# Altium footprint library FootprintsPersonals.PcbLib: 152 footprints (part 4 of 10)
Each footprint in its own frame and in the unit in brackets; x right, y up, seen from the top. Pads: shape width x height; smd on the part's side, far side on the other; paste and mask are expansions set on the pad; w line width, h text height; cw(c..) or ccw(c..) is an arc to the next point about the centre after c.
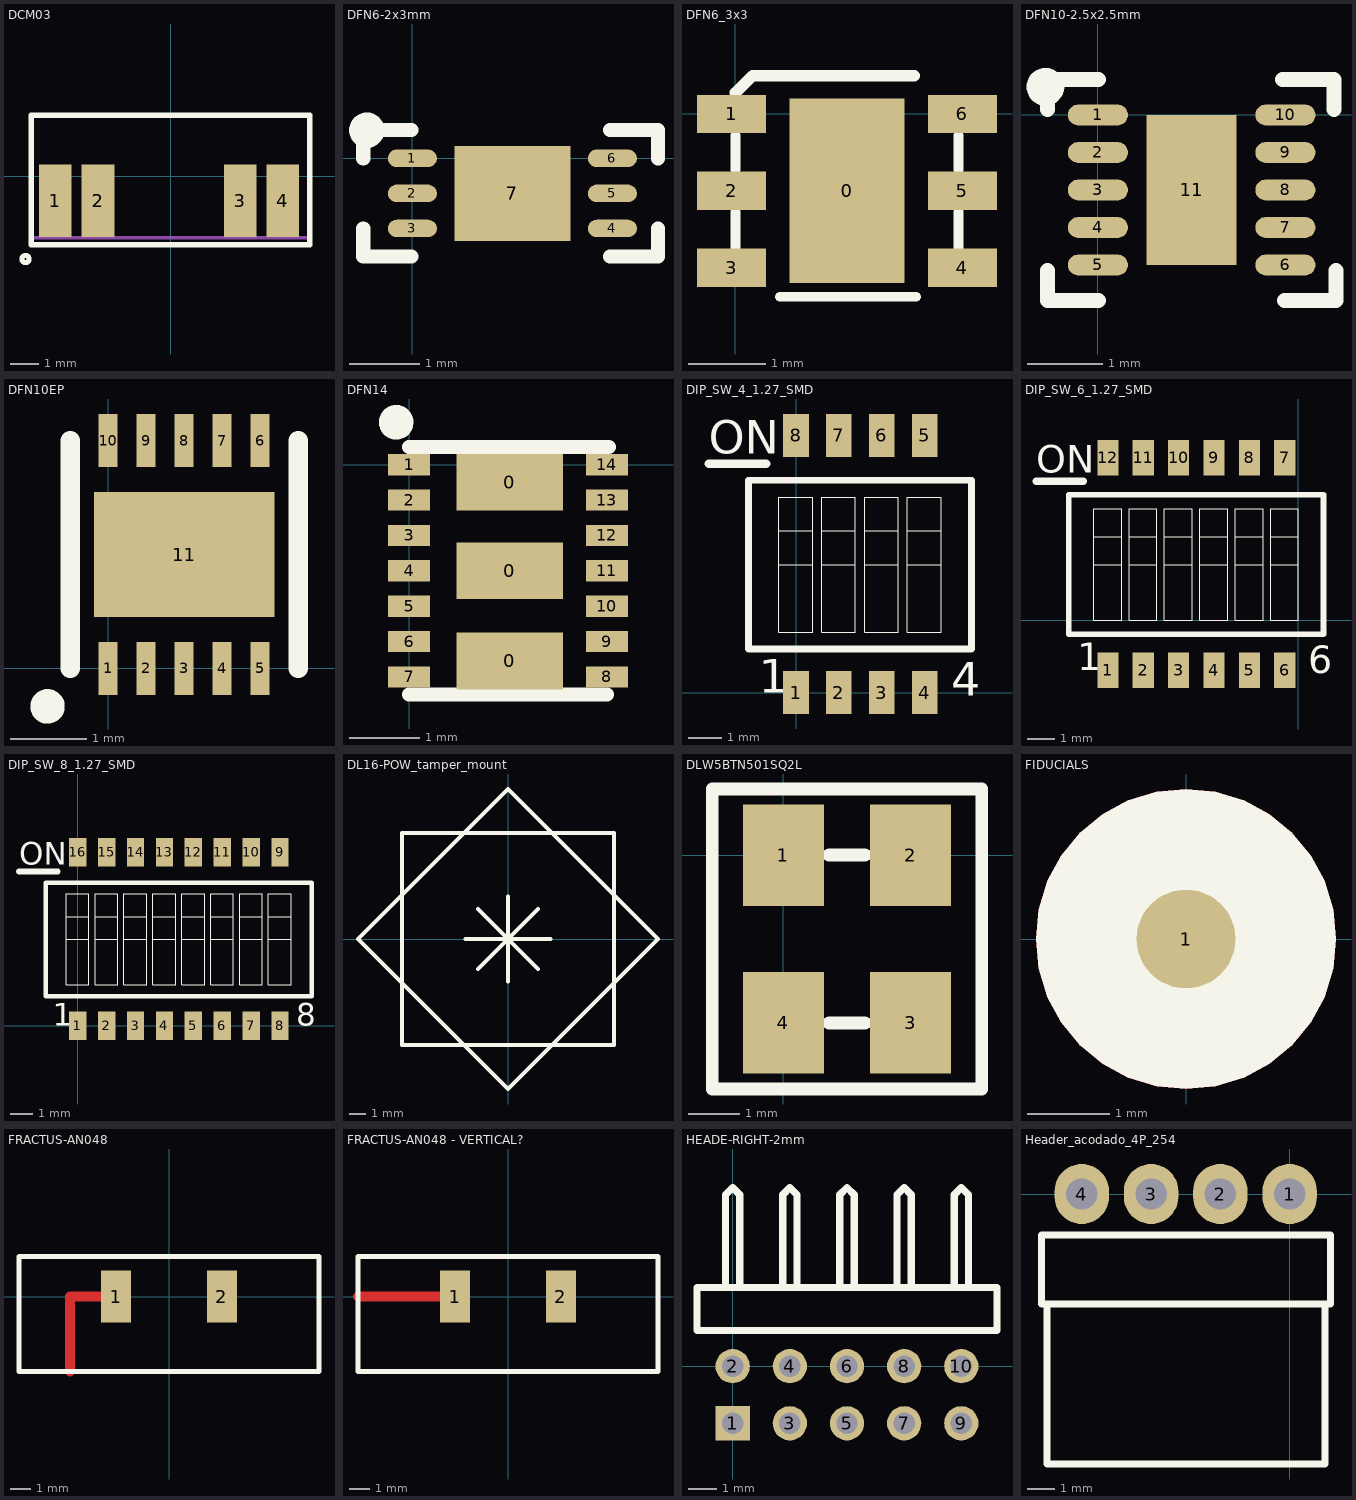
[diagram p3: the footprints below, top view; thin cyan lines are the x and y axes]

## DCM03 [mm] "Integrated Dual Emitter and Photodetector; 4 Leads"
height 1.3
pads (4):
  rect 1.15x2.55 smd: 1(-4.056,-0.85) 2(-2.55,-0.85) 3(2.45,-0.85) 4(3.95,-0.85)
Top Overlay:
  circle w0.178: c-5.104,-2.906 r0.127
  lines w0.2: -4.9,-2.4 4.9,-2.4 4.9,2.15 -4.9,2.15 -4.9,-2.4
Mechanical 5:
  lines w0.127: -4.9,-2.15 -4.9,2.15 4.9,2.15 4.9,-2.15 -4.9,-2.15
3D body: height 1.3, standoff 0, extent -4.9,-2.2 4.9,2.2

## DFN6-2x3mm [mm]
pads (7):
  oval 0.7x0.25 smd: 1(0,0) 2(0,-0.5) 3(0,-1) 4(2.85,-1) 5(2.85,-0.5) 6(2.85,0)
  rect 1.65x1.35 smd: 7(1.425,-0.5)
Top Overlay:
  circle w0.254: c-0.65,0.4 r0.125
  lines w0.2: -0.7,-1 -0.7,-1.4 -0.014,-1.4 ; -0.7,0 -0.7,0.4 -0.014,0.4 ; 2.814,-1.4 3.5,-1.4 3.5,-1 ; 2.814,0.4 3.5,0.4 3.5,0
3D body: height 0.75, standoff 0, extent -0.1,-1.5 2.9,0.5

## DFN6_3x3 [mm]
pads (7):
  rect 1.5x2.4 smd: 0(1.45,-1)
  rect 0.9x0.5 smd: 1(-0.05,0) 2(-0.05,-1) 3(-0.05,-2) 4(2.95,-2) 5(2.95,-1) 6(2.95,0)
Top Overlay:
  lines w0.127: 0,-1.75 0,-1.275 ; 0,-0.725 0,-0.275 ; 0.575,-2.375 2.35,-2.375 ; 0.625,0.5 2.325,0.5 ; 2.9,-1.75 2.9,-1.275 ; 2.9,-0.725 2.9,-0.275
  lines w0.15: 0,0.275 0.225,0.5 2.325,0.5

## DFN10-2.5x2.5mm [mm]
pads (11):
  oval 0.8x0.28 smd: 1(0,0) 2(0,-0.5) 3(0,-1) 4(0,-1.5) 5(0,-2) 6(2.5,-2) 7(2.5,-1.5) 8(2.5,-1) 9(2.5,-0.5) 10(2.5,0)
  rect 1.2x2 smd: 11(1.25,-1)
Top Overlay:
  circle w0.254: c-0.7,0.375 r0.125
  lines w0.2: -0.675,-2.075 -0.675,-2.475 0.011,-2.475 ; -0.675,0.075 -0.675,0.475 0.011,0.475 ; 2.464,0.475 3.15,0.475 3.15,0.075 ; 2.489,-2.475 3.175,-2.475 3.175,-2.075
3D body: height 0.75, standoff 0, extent 0,-2.25 2.5,0.25

## DFN10EP [mm]
pads (11):
  rect 0.25x0.7 smd: 1(0,0) 2(0.5,0) 3(1,0) 4(1.5,0) 5(2,0) 6(2,3) 7(1.5,3) 8(1,3) 9(0.5,3) 10(0,3)
  rect 2.38x1.65 smd: 11(1,1.5)
Top Overlay:
  circle w0.254: c-0.8,-0.5 r0.1
  lines w0.254: -0.5,0 -0.5,3 ; 2.5,0 2.5,3
3D body: height 0.8, standoff 0, extent -0.5,0 2.5,3

## DFN14 [mm]
pads (17):
  rect 1.5x0.8 smd: 0(1.425,-2.775) 0(1.425,-1.5) 0(1.425,-0.25)
  rect 0.6x0.3 smd: 1(0,0) 2(0,-0.5) 3(0,-1) 4(0,-1.5) 5(0,-2) 6(0,-2.5) 7(0,-3) 8(2.8,-3) 9(2.8,-2.5) 10(2.8,-2) 11(2.8,-1.5) 12(2.8,-1) 13(2.8,-0.5) 14(2.8,0)
Top Overlay:
  lines w0.2: 0,-3.25 2.8,-3.25 ; 0,0.25 1.525,0.25 2.825,0.25
  lines w0.254: -0.066,0.619 ccw(c-0.183,0.601) -0.065,0.598

## DIP_SW_4_1.27_SMD [mm] "DIP Switch; 8 Leads"
height 5.06
pads (8):
  rect 0.76x1.27 smd: 1(0,0) 2(1.27,0) 3(2.54,0) 4(3.81,0) 5(3.81,7.62) 6(2.54,7.62) 7(1.27,7.62) 8(0,7.62)
Top Overlay:
  lines w0.025: 0.76,3.79 1.76,3.79 ; 0.76,4.79 1.76,4.79 ; 2.03,3.79 3.03,3.79 ; 2.03,4.79 3.03,4.79 ; 3.3,3.79 4.3,3.79 ; 3.3,4.79 4.3,4.79 ; -0.51,1.79 0.49,1.79 ; -0.51,1.79 -0.51,5.79 ; -0.51,1.79 -0.51,5.79 ; -0.51,1.79 0.49,1.79 ; -0.51,5.79 0.49,5.79 ; -0.51,5.79 0.49,5.79 ; 0.49,1.79 0.49,5.79 ; 0.49,1.79 0.49,5.79 ; -0.51,3.79 0.49,3.79 -0.51,3.79 ; -0.51,4.79 0.49,4.79 -0.51,4.79 ; 0.76,1.79 1.76,1.79 1.76,5.79 0.76,5.79 0.76,1.79 ; 2.03,1.79 3.03,1.79 3.03,5.79 2.03,5.79 2.03,1.79 ; 3.3,1.79 4.3,1.79 4.3,5.79 3.3,5.79 3.3,1.79
  lines w0.2: -1.41,1.29 -1.41,6.29 5.2,6.29 5.2,1.29 -1.41,1.29
  lines w0.254: -2.58,6.78 -0.88,6.78
  text "4" at 4.6,-0.1 h1
  text "1" at -1.1,0 h1
  text "ON" at -2.58,7.08 h1

## DIP_SW_6_1.27_SMD [mm] "DIP Switch; 12 Leads"
height 5.06
pads (12):
  rect 0.76x1.27 smd: 1(-6.84,-1.79) 2(-5.57,-1.79) 3(-4.3,-1.79) 4(-3.03,-1.79) 5(-1.76,-1.79) 6(-0.49,-1.79) 7(-0.49,5.83) 8(-1.76,5.83) 9(-3.03,5.83) 10(-4.3,5.83) 11(-5.57,5.83) 12(-6.84,5.83)
Top Overlay:
  lines w0.025: -6.08,2 -5.08,2 ; -6.08,3 -5.08,3 ; -4.81,2 -3.81,2 ; -4.81,3 -3.81,3 ; -3.54,2 -2.54,2 ; -3.54,3 -2.54,3 ; -2.27,2 -1.27,2 ; -2.27,3 -1.27,3 ; -1,2 0,2 ; -1,3 0,3 ; -7.35,0 -6.35,0 ; -7.35,0 -7.35,4 ; -7.35,0 -7.35,4 ; -7.35,0 -6.35,0 ; -7.35,4 -6.35,4 ; -7.35,4 -6.35,4 ; -6.35,0 -6.35,4 ; -6.35,0 -6.35,4 ; -7.35,2 -6.35,2 -7.35,2 ; -7.35,3 -6.35,3 -7.35,3 ; -6.08,0 -6.08,4 -5.08,4 -5.08,0 -6.08,0 ; -4.81,0 -4.81,4 -3.81,4 -3.81,0 -4.81,0 ; -3.54,0 -3.54,4 -2.54,4 -2.54,0 -3.54,0 ; -2.27,0 -2.27,4 -1.27,4 -1.27,0 -2.27,0 ; -1,0 0,0 0,4 -1,4 -1,0
  lines w0.2: -8.25,-0.5 0.9,-0.5 0.9,4.5 -8.25,4.5 -8.25,-0.5
  lines w0.254: -9.42,4.99 -7.72,4.99
  text "ON" at -9.42,5.29 h1
  text "1" at -7.94,-1.79 h1
  text "6" at 0.35,-1.9 h1

## DIP_SW_8_1.27_SMD [mm] "DIP Switch; 16 Leads"
height 5.06
pads (16):
  rect 0.76x1.27 smd: 1(0,0) 2(1.27,0) 3(2.54,0) 4(3.81,0) 5(5.08,0) 6(6.35,0) 7(7.62,0) 8(8.89,0) 9(8.89,7.62) 10(7.62,7.62) 11(6.35,7.62) 12(5.08,7.62) 13(3.81,7.62) 14(2.54,7.62) 15(1.27,7.62) 16(0,7.62)
Top Overlay:
  lines w0.025: 0.76,3.79 1.76,3.79 ; 0.76,4.79 1.76,4.79 ; 2.03,3.79 3.03,3.79 ; 2.03,4.79 3.03,4.79 ; 3.3,3.79 4.3,3.79 ; 3.3,4.79 4.3,4.79 ; 4.57,3.79 5.57,3.79 ; 4.57,4.79 5.57,4.79 ; 5.84,3.79 6.84,3.79 ; 5.84,4.79 6.84,4.79 ; 7.11,3.79 8.11,3.79 ; 7.11,4.79 8.11,4.79 ; 8.38,3.79 9.38,3.79 ; 8.38,4.79 9.38,4.79 ; -0.51,1.79 0.49,1.79 ; -0.51,1.79 -0.51,5.79 ; -0.51,1.79 -0.51,5.79 ; -0.51,1.79 0.49,1.79 ; -0.51,5.79 0.49,5.79 ; -0.51,5.79 0.49,5.79 ; 0.49,1.79 0.49,5.79 ; 0.49,1.79 0.49,5.79 ; -0.51,3.79 0.49,3.79 -0.51,3.79 ; -0.51,4.79 0.49,4.79 -0.51,4.79 ; 0.76,1.79 1.76,1.79 1.76,5.79 0.76,5.79 0.76,1.79 ; 2.03,1.79 3.03,1.79 3.03,5.79 2.03,5.79 2.03,1.79 ; 3.3,1.79 4.3,1.79 4.3,5.79 3.3,5.79 3.3,1.79 ; 4.57,1.79 5.57,1.79 5.57,5.79 4.57,5.79 4.57,1.79 ; 5.84,1.79 6.84,1.79 6.84,5.79 5.84,5.79 5.84,1.79 ; 7.11,1.79 8.11,1.79 8.11,5.79 7.11,5.79 7.11,1.79 ; 8.38,1.79 9.38,1.79 9.38,5.79 8.38,5.79 8.38,1.79
  lines w0.2: -1.41,1.29 -1.41,6.29 10.28,6.29 10.28,1.29 -1.41,1.29
  lines w0.254: -2.58,6.78 -0.88,6.78
  text "8" at 9.6,0 h1
  text "1" at -1.1,0 h1
  text "ON" at -2.58,7.08 h1

## DL16-POW_tamper_mount [mm]
height 1.35
Top Overlay:
  lines w0.254: -2.54,0 0,0 ; -1.796,-1.796 0,0 ; -1.796,1.796 0,0 ; 0,-2.54 0,0 ; 0,2.54 0,0 ; 1.796,-1.796 0,0 ; 1.796,1.796 0,0 ; 2.54,0 0,0 ; -8.982,0 -6.94,-2.042 ; -8.982,0 -0.002,8.98 ; -8.982,0 -6.94,-2.042 ; -8.982,0 -0.002,8.98 ; -6.94,-2.042 -5.757,-3.225 ; -6.351,-6.349 6.349,-6.349 ; -6.351,-6.349 -6.351,-5.838 ; -6.351,-6.349 6.349,-6.349 ; -6.351,-6.349 -6.351,-5.838 ; -6.351,-5.838 -6.351,-4.149 ; -6.351,-4.149 -6.351,1.79 ; -6.351,-4.149 -6.351,1.79 ; -6.351,1.79 -6.351,3.463 ; -6.351,3.463 -6.351,6.351 ; -6.351,3.463 -6.351,6.351 ; -6.351,6.351 6.349,6.351 ; -6.351,6.351 6.349,6.351 ; -5.757,-3.225 -1.557,-7.425 ; -5.757,-3.225 -1.557,-7.425 ; -1.557,-7.425 -0.363,-8.619 ; -0.363,-8.619 -0.002,-8.98 ; -0.363,-8.619 -0.002,-8.98 ; -0.002,-8.98 8.978,0 ; -0.002,-8.98 8.978,0 ; -0.002,8.98 8.978,0 ; -0.002,8.98 8.978,0 ; 6.349,-6.349 6.349,6.351 ; 6.349,-6.349 6.349,6.351

## DLW5BTN501SQ2L [mm] "Common Mode Choke Coil Wire Wound Type for Large Current"
height 2.5
pads (4):
  rect 1.6x2 smd: 1(0,0) 2(2.5,0) 3(2.5,-3.3) 4(0,-3.3)
Top Overlay:
  lines w0.254: 0.9,-3.3 1.6,-3.3 ; 0.9,0 1.6,0 ; -1.4,-4.6 -1.4,1.3 3.9,1.3 3.9,-4.6 -1.4,-4.6
3D body: height 2.5, standoff 0.45, extent -1.4,-4.6 3.9,1.3

## FIDUCIALS [mm]
pads (1):
  round 1.2 smd mask+1.2: 1(0,0)
Top Layer:
  pour cut-out: 0.353,1.784 0.355,1.783 0.356,1.783 0.695,1.681 0.696,1.68 0.697,1.679 1.009,1.513 1.01,1.512 1.011,1.511 1.285,1.287 1.285,1.286 1.286,1.286 1.288,1.282 1.29,1.277 1.29,1.276 1.288,1.272 1.288,1.271 1.294,1.265 1.296,1.265 1.297,1.265 1.298,1.265 1.302,1.263 1.306,1.261 1.307,1.26 1.511,1.011 1.512,1.01 1.513,1.009 1.679,0.697 1.68,0.696 1.681,0.695 1.783,0.356 1.783,0.355 1.784,0.353 1.818,0.001 1.818,0 1.818,-0.001 1.784,-0.353 1.783,-0.355 1.783,-0.356 1.681,-0.695 1.68,-0.696 1.679,-0.697 1.513,-1.009 1.512,-1.01 1.511,-1.011 1.287,-1.285 1.286,-1.286 1.285,-1.287 1.011,-1.511 1.01,-1.512 1.009,-1.513 0.697,-1.679 0.696,-1.68 0.695,-1.681 0.356,-1.783 0.355,-1.783 0.353,-1.784 0.001,-1.818 0,-1.818 -0.001,-1.818 -0.353,-1.784 -0.355,-1.783 -0.356,-1.783 -0.695,-1.681 -0.696,-1.68 -0.697,-1.679 -1.009,-1.513 -1.01,-1.512 -1.011,-1.511 -1.285,-1.287 -1.286,-1.286 -1.287,-1.285 -1.511,-1.011 -1.512,-1.01 -1.513,-1.009 -1.679,-0.697 -1.68,-0.696 -1.681,-0.695 -1.783,-0.356 -1.783,-0.355 -1.784,-0.353 -1.818,-0.001 -1.818,0 -1.818,0.001 -1.784,0.353 -1.783,0.355 -1.783,0.356 -1.681,0.695 -1.68,0.696 -1.679,0.697 -1.513,1.009 -1.512,1.01 -1.511,1.011 -1.287,1.285 -1.286,1.286 -1.285,1.287 -1.011,1.511 -1.01,1.512 -1.009,1.513 -0.697,1.679 -0.696,1.68 -0.695,1.681 -0.356,1.783 -0.355,1.783 -0.353,1.784 -0.001,1.818 0,1.818 0.001,1.818
Top Overlay:
  pour cut-out: 0.353,1.784 0.355,1.783 0.356,1.783 0.695,1.681 0.696,1.68 0.697,1.679 1.009,1.513 1.01,1.512 1.011,1.511 1.285,1.287 1.285,1.286 1.286,1.286 1.288,1.282 1.29,1.277 1.29,1.276 1.288,1.272 1.288,1.271 1.294,1.265 1.296,1.265 1.297,1.265 1.298,1.265 1.302,1.263 1.306,1.261 1.307,1.26 1.511,1.011 1.512,1.01 1.513,1.009 1.679,0.697 1.68,0.696 1.681,0.695 1.783,0.356 1.783,0.355 1.784,0.353 1.818,0.001 1.818,0 1.818,-0.001 1.784,-0.353 1.783,-0.355 1.783,-0.356 1.681,-0.695 1.68,-0.696 1.679,-0.697 1.513,-1.009 1.512,-1.01 1.511,-1.011 1.287,-1.285 1.286,-1.286 1.285,-1.287 1.011,-1.511 1.01,-1.512 1.009,-1.513 0.697,-1.679 0.696,-1.68 0.695,-1.681 0.356,-1.783 0.355,-1.783 0.353,-1.784 0.001,-1.818 0,-1.818 -0.001,-1.818 -0.353,-1.784 -0.355,-1.783 -0.356,-1.783 -0.695,-1.681 -0.696,-1.68 -0.697,-1.679 -1.009,-1.513 -1.01,-1.512 -1.011,-1.511 -1.285,-1.287 -1.286,-1.286 -1.287,-1.285 -1.511,-1.011 -1.512,-1.01 -1.513,-1.009 -1.679,-0.697 -1.68,-0.696 -1.681,-0.695 -1.783,-0.356 -1.783,-0.355 -1.784,-0.353 -1.818,-0.001 -1.818,0 -1.818,0.001 -1.784,0.353 -1.783,0.355 -1.783,0.356 -1.681,0.695 -1.68,0.696 -1.679,0.697 -1.513,1.009 -1.512,1.01 -1.511,1.011 -1.287,1.285 -1.286,1.286 -1.285,1.287 -1.011,1.511 -1.01,1.512 -1.009,1.513 -0.697,1.679 -0.696,1.68 -0.695,1.681 -0.356,1.783 -0.355,1.783 -0.353,1.784 -0.001,1.818 0,1.818 0.001,1.818
Top Paste:
  pour cut-out: 0.353,1.784 0.355,1.783 0.356,1.783 0.695,1.681 0.696,1.68 0.697,1.679 1.009,1.513 1.01,1.512 1.011,1.511 1.285,1.287 1.285,1.286 1.286,1.286 1.288,1.282 1.29,1.277 1.29,1.276 1.288,1.272 1.288,1.271 1.294,1.265 1.296,1.265 1.297,1.265 1.298,1.265 1.302,1.263 1.306,1.261 1.307,1.26 1.511,1.011 1.512,1.01 1.513,1.009 1.679,0.697 1.68,0.696 1.681,0.695 1.783,0.356 1.783,0.355 1.784,0.353 1.818,0.001 1.818,0 1.818,-0.001 1.784,-0.353 1.783,-0.355 1.783,-0.356 1.681,-0.695 1.68,-0.696 1.679,-0.697 1.513,-1.009 1.512,-1.01 1.511,-1.011 1.287,-1.285 1.286,-1.286 1.285,-1.287 1.011,-1.511 1.01,-1.512 1.009,-1.513 0.697,-1.679 0.696,-1.68 0.695,-1.681 0.356,-1.783 0.355,-1.783 0.353,-1.784 0.001,-1.818 0,-1.818 -0.001,-1.818 -0.353,-1.784 -0.355,-1.783 -0.356,-1.783 -0.695,-1.681 -0.696,-1.68 -0.697,-1.679 -1.009,-1.513 -1.01,-1.512 -1.011,-1.511 -1.285,-1.287 -1.286,-1.286 -1.287,-1.285 -1.511,-1.011 -1.512,-1.01 -1.513,-1.009 -1.679,-0.697 -1.68,-0.696 -1.681,-0.695 -1.783,-0.356 -1.783,-0.355 -1.784,-0.353 -1.818,-0.001 -1.818,0 -1.818,0.001 -1.784,0.353 -1.783,0.355 -1.783,0.356 -1.681,0.695 -1.68,0.696 -1.679,0.697 -1.513,1.009 -1.512,1.01 -1.511,1.011 -1.287,1.285 -1.286,1.286 -1.285,1.287 -1.011,1.511 -1.01,1.512 -1.009,1.513 -0.697,1.679 -0.696,1.68 -0.695,1.681 -0.356,1.783 -0.355,1.783 -0.353,1.784 -0.001,1.818 0,1.818 0.001,1.818
Top Solder:
  pour cut-out: 0.353,1.784 0.355,1.783 0.356,1.783 0.695,1.681 0.696,1.68 0.697,1.679 1.009,1.513 1.01,1.512 1.011,1.511 1.285,1.287 1.285,1.286 1.286,1.286 1.288,1.282 1.29,1.277 1.29,1.276 1.288,1.272 1.288,1.271 1.294,1.265 1.296,1.265 1.297,1.265 1.298,1.265 1.302,1.263 1.306,1.261 1.307,1.26 1.511,1.011 1.512,1.01 1.513,1.009 1.679,0.697 1.68,0.696 1.681,0.695 1.783,0.356 1.783,0.355 1.784,0.353 1.818,0.001 1.818,0 1.818,-0.001 1.784,-0.353 1.783,-0.355 1.783,-0.356 1.681,-0.695 1.68,-0.696 1.679,-0.697 1.513,-1.009 1.512,-1.01 1.511,-1.011 1.287,-1.285 1.286,-1.286 1.285,-1.287 1.011,-1.511 1.01,-1.512 1.009,-1.513 0.697,-1.679 0.696,-1.68 0.695,-1.681 0.356,-1.783 0.355,-1.783 0.353,-1.784 0.001,-1.818 0,-1.818 -0.001,-1.818 -0.353,-1.784 -0.355,-1.783 -0.356,-1.783 -0.695,-1.681 -0.696,-1.68 -0.697,-1.679 -1.009,-1.513 -1.01,-1.512 -1.011,-1.511 -1.285,-1.287 -1.286,-1.286 -1.287,-1.285 -1.511,-1.011 -1.512,-1.01 -1.513,-1.009 -1.679,-0.697 -1.68,-0.696 -1.681,-0.695 -1.783,-0.356 -1.783,-0.355 -1.784,-0.353 -1.818,-0.001 -1.818,0 -1.818,0.001 -1.784,0.353 -1.783,0.355 -1.783,0.356 -1.681,0.695 -1.68,0.696 -1.679,0.697 -1.513,1.009 -1.512,1.01 -1.511,1.011 -1.287,1.285 -1.286,1.286 -1.285,1.287 -1.011,1.511 -1.01,1.512 -1.009,1.513 -0.697,1.679 -0.696,1.68 -0.695,1.681 -0.356,1.783 -0.355,1.783 -0.353,1.784 -0.001,1.818 0,1.818 0.001,1.818

## FRACTUS-AN048 [mm] "Antena FRACTUS"
height 2
pads (2):
  rect 1.5x2.6 smd: 1(-2.65,0) 2(2.65,0)
Top Layer:
  lines w0.5: -4.95,-3.75 -4.95,0 -2.65,0
Top Overlay:
  lines w0.254: -7.5,-3.75 -7.5,2 7.5,2 7.5,-3.75 -7.5,-3.75

## FRACTUS-AN048 - VERTICAL? [mm] "Antena FRACTUS"
height 2
pads (2):
  rect 1.5x2.6 smd: 1(-2.65,0) 2(2.65,0)
Top Layer:
  lines w0.5: -7.5,0 -2.65,0
Top Overlay:
  lines w0.254: -7.5,-3.75 7.5,-3.75 7.5,2 -7.5,2 -7.5,-3.75

## HEADE-RIGHT-2mm [mm]
height 4
pads (10):
  rect 1.2x1.2 hole 0.75: 1(0,-2)
  round 1.2 hole 0.75: 2(0,0) 3(2,-2) 4(2,0) 5(4,-2) 6(4,0) 7(6,-2) 8(6,0) 9(8,-2) 10(8,0)
Top Overlay:
  lines w0.254: 1.75,2.75 1.75,6 2,6.25 2.25,6 2.25,2.75 ; 3.75,2.75 3.75,6 4,6.25 4.25,6 4.25,2.75 ; 5.75,2.75 5.75,6 6,6.25 6.25,6 6.25,2.75 ; 7.75,2.75 7.75,6 8,6.25 8.25,6 8.25,2.75 ; -0.25,6 -0.25,2.75 -0.25,6 ; -0.25,6 0,6.25 ; -0.25,6 0,6.25 ; 0,6.25 0.25,6 ; 0,6.25 0.25,6 ; 0.25,6 0.25,2.75 0.25,6 ; -1.25,1.25 -1.25,2.75 9.25,2.75 9.25,1.25 -1.25,1.25
3D body: height 3.25, standoff 2.75, extent 7.75,-2 8.25,6.25
3D body: height 1.25, standoff 0.75, extent 7.75,0 8.25,6.25
3D body: height 3.25, standoff 2.75, extent 5.75,-2 6.25,6.25
3D body: height 1.25, standoff 0.75, extent 5.75,0 6.25,6.25
3D body: height 3.25, standoff 2.75, extent 3.75,-2 4.25,6.25
3D body: height 1.25, standoff 0.75, extent 3.75,0 4.25,6.25
3D body: height 3.25, standoff 2.75, extent 1.75,-2 2.25,6.25
3D body: height 1.25, standoff 0.75, extent 1.75,0 2.25,6.25
3D body: height 1.25, standoff 0.75, extent -0.25,0 0.25,6.25
3D body: height 4, standoff 0, extent -1.25,1.25 9.25,2.75
3D body: height 3.25, standoff 2.75, extent -0.25,-2 0.25,6.25

## Header_acodado_4P_254 [mm]
pads (4):
  oval 2x2.2 hole 1.15: 1(0,0) 2(-2.54,0) 3(-5.08,0) 4(-7.62,0)
Top Overlay:
  lines w0.254: -8.9,-4.04 -8.9,-9.9 1.3,-9.9 1.3,-4.04 ; -9.1,-4.04 -9.1,-1.5 1.5,-1.5 1.5,-4.04 -9.1,-4.04
3D body "Download_STP_61300411021.stp": height 2.55, standoff -2.99, extent -8.88,-9.97 1.28,0.39